# Altium schematic symbol library NUP2105L.SchLib: 1 symbol
Pins are listed as number, name and electrical type; pins without a type are passive.

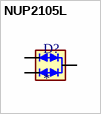
[diagram p0: symbol NUP2105L]

## NUP2105L
designator D?
MP: NUP2105L; MF: {'manufacturer': u'Diotec Semiconductor'}; Value: *; Availability: Unavailable; Package: None; Price: None
footprint SOT23
pins: 1 CANH (io), 2 CANL (io), 3 GND (io)